# EAGLE library part TPS65135 (library common)
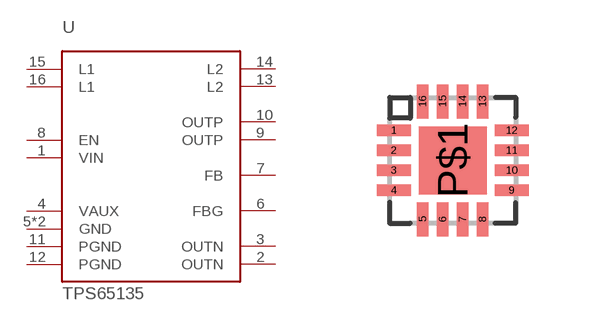
[diagram p20: symbol with the pads of S-PWQFN-N16_RTE; footprint S-PWQFN-N16_RTE]

Designator prefix U

## TPS65135  [S-PWQFN-N16_RTE]
1  VIN
2  OUTN
3  OUTN
4  VAUX
5  GND
6  FBG
7  FB
8  EN
9  OUTP
10  OUTP
11  PGND
12  PGND
13  L2
14  L2
15  L1
16  L1
P$1  GND

## Footprint S-PWQFN-N16_RTE (pad centres in mm)
TPS65135 - Switching Power Supply - 3.3V - 5.5V Input - +6V/-6V Output - 80mA
smd 0.85 x 0.28: 1 -1.475,0.75; 2 -1.475,0.25; 3 -1.475,-0.25; 4 -1.475,-0.75; 9 1.475,-0.75; 10 1.475,-0.25; 11 1.475,0.25; 12 1.475,0.75
smd 0.28 x 0.85: 5 -0.75,-1.475; 6 -0.25,-1.475; 7 0.25,-1.475; 8 0.75,-1.475; 13 0.75,1.475; 14 0.25,1.475; 15 -0.25,1.475; 16 -0.75,1.475
smd 1.7 x 1.7: P$1 0,0